# EAGLE library part TPS62177 (library packages(ti))
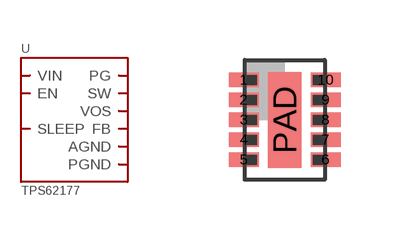
[diagram p28: symbol with the pads of DQC; footprint DQC]

Designator prefix U

## TPS62177.DQC  [DQC]
1  PGND
2  VIN
3  EN
5  FB
6  AGND
7  PG
8  SLEEP
9  SW
10  VOS
PAD  PGND

## Footprint DQC (pad centres in mm)
smd 0.75 x 0.37: 1 -1.025,1; 2 -1.025,0.5; 3 -1.025,0; 4 -1.025,-0.5; 5 -1.025,-1; 6 1.025,-1; 7 1.025,-0.5; 8 1.025,0; 9 1.025,0.5; 10 1.025,1
smd 0.84 x 2.4: PAD 0,0